# Altium footprint library Con Mod Jack PCB.PcbLib: 213 footprints (part 14 of 14)
Each footprint in its own frame and in the unit in brackets; x right, y up, seen from the top. Pads: shape width x height; smd on the part's side, far side on the other; paste and mask are expansions set on the pad; w line width, h text height; cw(c..) or ccw(c..) is an arc to the next point about the centre after c.
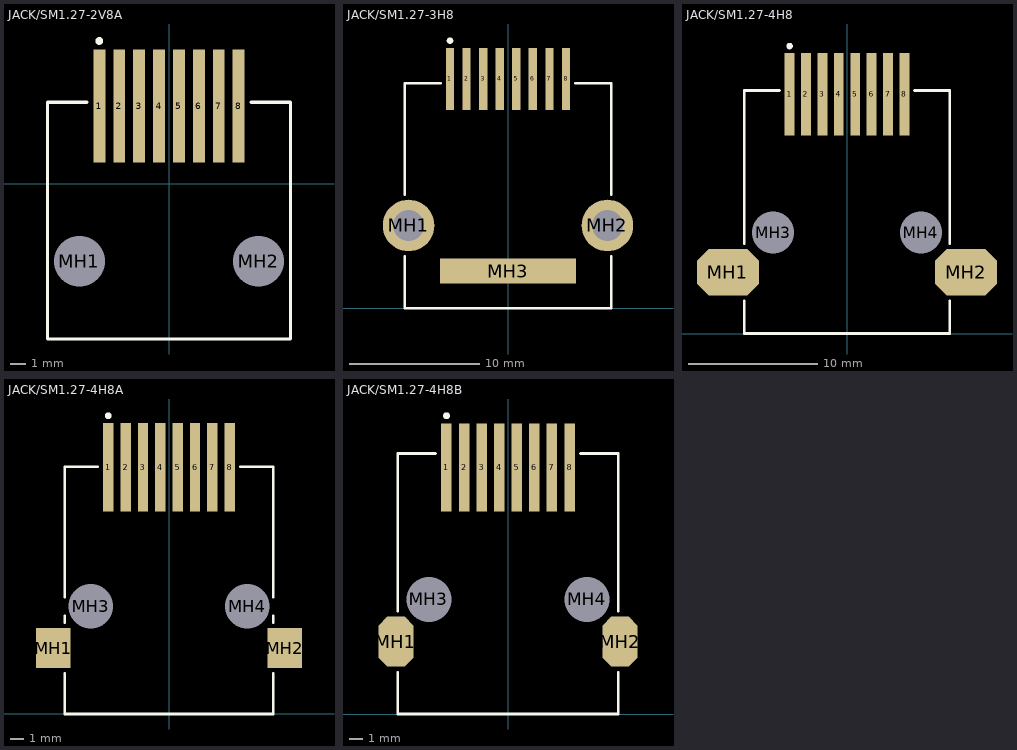
[diagram p13: the footprints below, top view; thin cyan lines are the x and y axes]

## JACK/SM1.27-2V8A [mm] "Connector; PCB Jack, SM; 1-Port, 8 Positions, 8 Loaded; Unshielded without Lightpipes; Vertical"
height 15.7
pads (10):
  rect 0.76x7.2 smd: 1(-4.445,4.95) 2(-3.175,4.95) 3(-1.905,4.95) 4(-0.635,4.95) 5(0.635,4.95) 6(1.905,4.95) 7(3.175,4.95) 8(4.445,4.95)
  round 2.95 hole 3.25 unplated: MH1(-5.715,-4.95) MH2(5.715,-4.95)
Top Overlay:
  circle w0.25: c-4.445,9.1 r0.125
  lines w0.2: -5.225,5.19 -7.74,5.19 -7.74,-9.91 7.74,-9.91 7.74,5.19 5.225,5.19

## JACK/SM1.27-3H8 [mil] "Connector; PCB Jack, SM; 1-Port, 8 Positions, 8 Loaded; Shielded without Lightpipes; Right Angle"
height 529.53
pads (11):
  rect 25x187 smd: 1(-175,692.5) 2(-125,692.5) 3(-75,692.5) 4(-25,692.5) 5(25,692.5) 6(75,692.5) 7(125,692.5) 8(175,692.5)
  round 155.51 hole 94.49: MH1(-300,250) MH2(300,250)
  rect 410x75 smd: MH3(0,112.5)
Top Overlay:
  circle w9.84: c-175,807.65 r4.92
  lines w7.87: -312,157.28 -312,0 312,0 312,157.28 ; -312,342.72 -312,679 -203.25,679 ; 203.25,679 312,679 312,342.72

## JACK/SM1.27-4H8 [mm] "Connector; PCB Jack, SM; 1-Port, 8 Positions, 8 Loaded; Shielded without Lightpipes; Right Angle"
height 14.15
pads (12):
  rect 0.76x6.35 smd: 1(-4.445,18.515) 2(-3.175,18.515) 3(-1.905,18.515) 4(-0.635,18.515) 5(0.635,18.515) 6(1.905,18.515) 7(3.175,18.515) 8(4.445,18.515)
  oct 4.79x3.6 smd: MH1(-9.21,4.74) MH2(9.21,4.74)
  round 2.95 hole 3.25 unplated: MH3(-5.715,7.8) MH4(5.715,7.8)
Top Overlay:
  circle w0.25: c-4.445,22.24 r0.125
  lines w0.2: -7.95,2.54 -7.95,0 7.95,0 7.95,2.54 ; -7.95,6.94 -7.95,18.8 -5.225,18.8 ; 5.225,18.8 7.95,18.8 7.95,6.94

## JACK/SM1.27-4H8A [mm] "Connector; PCB Jack, SM; 1-Port, 8 Positions, 8 Loaded; Shielded without Lightpipes; Right Angle"
height 11.75
pads (12):
  rect 0.76x6.45 smd: 1(-4.445,18.055) 2(-3.175,18.055) 3(-1.905,18.055) 4(-0.635,18.055) 5(0.635,18.055) 6(1.905,18.055) 7(3.175,18.055) 8(4.445,18.055)
  rect 2.54x2.94 smd: MH1(-8.465,4.83) MH2(8.465,4.83)
  round 2.95 hole 3.25 unplated: MH3(-5.715,7.88) MH4(5.715,7.88)
Top Overlay:
  circle w0.25: c-4.445,21.83 r0.125
  lines w0.2: -7.62,2.96 -7.62,0 7.62,0 7.62,2.96 ; -7.62,6.7 -7.62,7.193 ; -7.62,8.567 -7.62,18.1 -5.225,18.1 ; 5.225,18.1 7.62,18.1 7.62,8.567 ; 7.62,6.7 7.62,7.193

## JACK/SM1.27-4H8B [mm] "Connector; PCB Jack, SM; 1-Port, 8 Positions, 8 Loaded; Shielded without Lightpipes; Right Angle"
height 13.35
pads (12):
  rect 0.76x6.35 smd: 1(-4.445,17.805) 2(-3.175,17.805) 3(-1.905,17.805) 4(-0.635,17.805) 5(0.635,17.805) 6(1.905,17.805) 7(3.175,17.805) 8(4.445,17.805)
  oct 2.54x3.6 smd: MH1(-8.085,5.22) MH2(8.085,5.22)
  round 2.95 hole 3.25 unplated: MH3(-5.715,8.28) MH4(5.715,8.28)
Top Overlay:
  circle w0.25: c-4.445,21.53 r0.125
  lines w0.2: -7.95,3.02 -7.95,0 7.95,0 7.95,3.02 ; -7.95,7.42 -7.95,18.8 -5.225,18.8 ; 5.225,18.8 7.95,18.8 7.95,7.42